# Altium footprint library PCB - SWITCH - OMRON B3FS-1012P.PcbLib: 1 footprints
Each footprint in its own frame and in the unit in brackets; x right, y up, seen from the top. Pads: shape width x height; smd on the part's side, far side on the other; paste and mask are expansions set on the pad; w line width, h text height; cw(c..) or ccw(c..) is an arc to the next point about the centre after c.
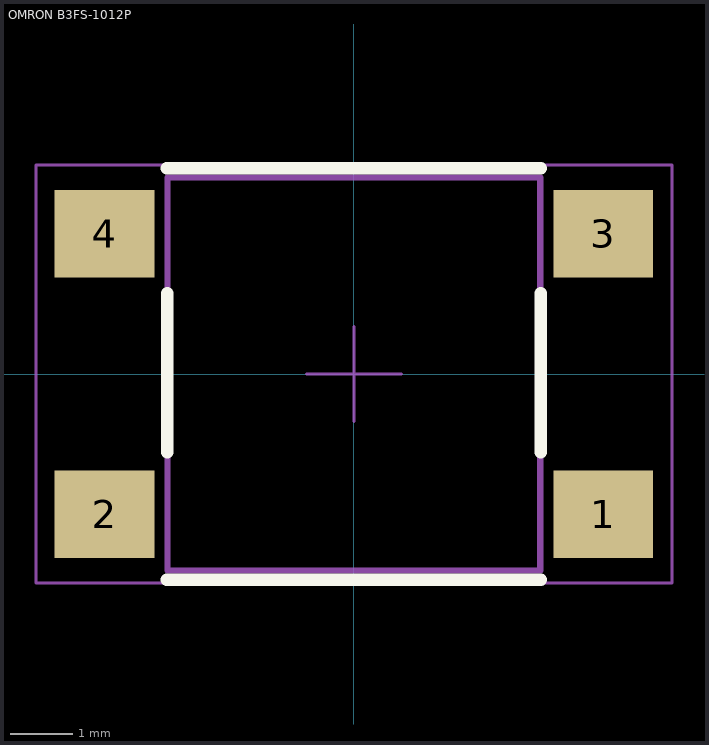
[diagram p0: the footprint, top view; thin cyan lines are the x and y axes]

## OMRON B3FS-1012P [mm] "B3FS-1000 Flat Style, 4 Pins, 6.3x6.3x4.3mm, 4.5mm Pitch"
height 4.3
pads (4):
  rect 1.6x1.4 smd: 1(4,-2.25) 2(-4,-2.25) 3(4,2.25) 4(-4,2.25)
Top Overlay:
  lines w0.2: -3,-3.3 3,-3.3 ; -3,3.3 3,3.3 ; -2.997,-1.253 -2.997,1.296 ; 2.997,-1.253 2.997,1.296
Mechanical 13:
  lines w0.1: -2.988,-3.15 -2.988,3.152 2.989,3.152 2.989,-3.15 -2.988,-3.15
Mechanical 15 (Mech15):
  lines w0.05: -0.762,0 0.762,0 ; 0,-0.762 0,0.762 ; 5.102,-3.35 5.102,3.35 ; 5.104,-3.35 -5.102,-3.35 -5.102,3.35 -5.051,3.35 5.104,3.35
3D body "Omron - B3FS.step": height 4.2, standoff -0.1, extent -4,-3.15 4,3.15